# Altium schematic symbol library 102709.SchLib: 5 symbols
Pins are listed as number, name and electrical type; pins without a type are passive.

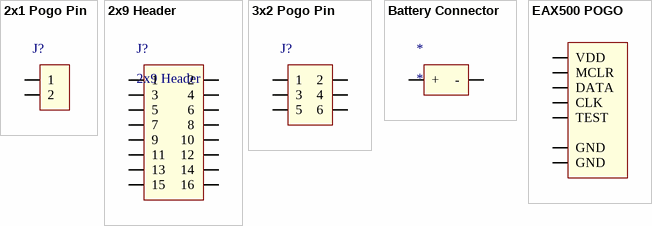
[diagram p0: symbols 2x1 Pogo Pin to EAX500 POGO]

## 2x1 Pogo Pin
designator J?  (value not drawn)
footprint 2x1 Pogo Pin
pins: 1, 2

## 2x9 Header
designator J?
footprint 2x9_header
pins: 1, 2, 3, 4, 5, 6, 7, 8, 9, 10, 11, 12, 13, 14, 15, 16

## 3x2 Pogo Pin
designator J?  (value not drawn)
pins: 1, 2, 3, 4, 5, 6

## Battery Connector
designator *
footprint Battery Connector
pins: 1 +, 2 -

## EAX500 POGO
designator ?  (value not drawn)
footprint EAX500 POGOS
pins: 2 GND, 3 CLK, 4 DATA, 5 MCLR, 6 VDD, 7 TEST, 8 GND